# Altium footprint library PCB2.PCBLIB: 30 footprints (part 2 of 2)
Each footprint in its own frame and in the unit in brackets; x right, y up, seen from the top. Pads: shape width x height; smd on the part's side, far side on the other; paste and mask are expansions set on the pad; w line width, h text height; cw(c..) or ccw(c..) is an arc to the next point about the centre after c.
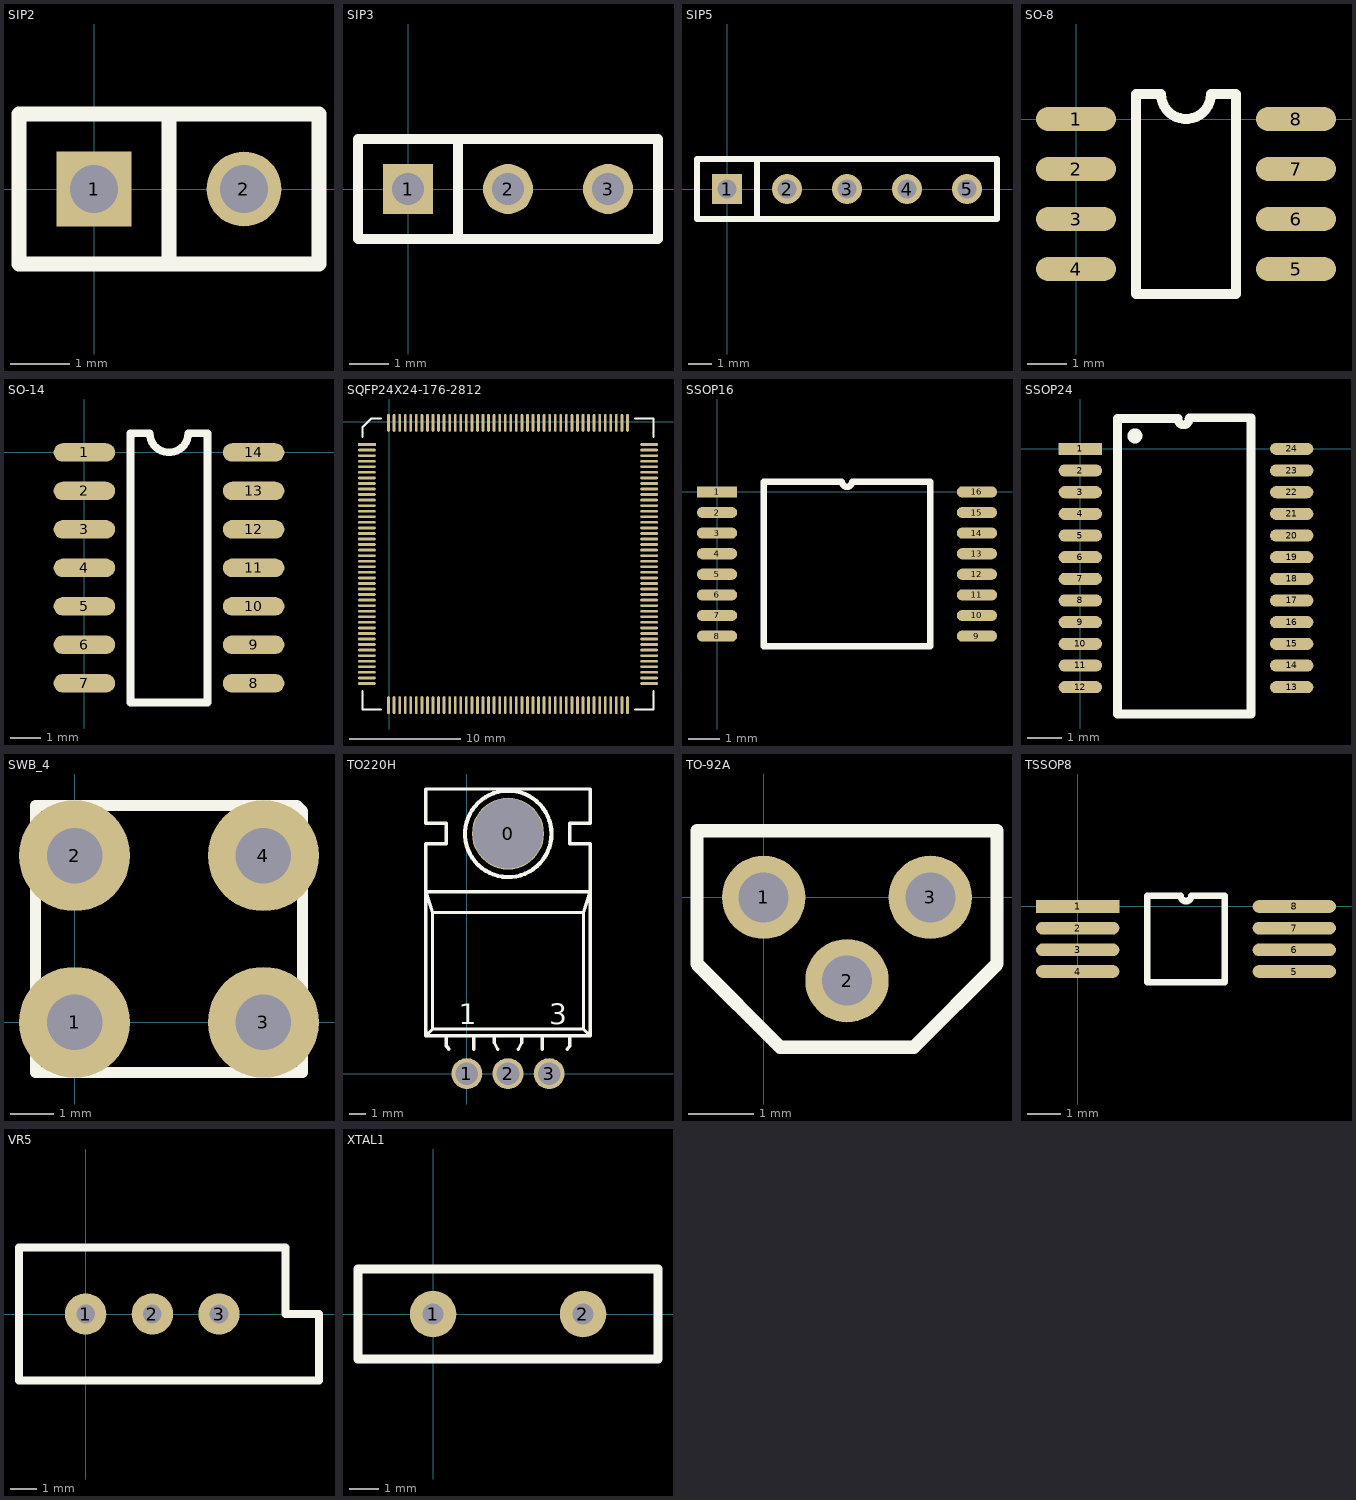
[diagram p1: the footprints below, top view; thin cyan lines are the x and y axes]

## SIP2 [mil]
pads (2):
  rect 50x50 hole 32: 1(0,0)
  round 50 hole 32: 2(100,0)
TopOverlay:
  lines w10: 50,-50 50,50 ; -50,-50 -50,50 150,50 150,-50 -50,-50

## SIP3 [mil]
pads (3):
  rect 50x50 hole 32: 1(0,0)
  round 50 hole 32: 2(100,0) 3(200,0)
TopOverlay:
  lines w10: 50,-50 50,50 ; -50,-50 -50,50 250,50 250,-50 -50,-50

## SIP5 [mil]
pads (5):
  rect 50x50 hole 32: 1(0,0)
  round 50 hole 32: 2(100,0) 3(200,0) 4(300,0) 5(400,0)
TopOverlay:
  lines w10: 50,-50 50,50 ; -50,-50 -50,50 450,50 450,-50 -50,-50

## SO-8 [mil]
pads (8):
  oval 80x24 smd: 1(0,0) 2(0,-50) 3(0,-100) 4(0,-150) 5(220,-150) 6(220,-100) 7(220,-50) 8(220,0)
TopOverlay:
  lines w10: 60,-175 60,25 85,25 ccw(c110,25) 135,25 160,25 160,-175 60,-175

## SO-14 [mil]
pads (14):
  oval 80x24 smd: 1(0,0) 2(0,-50) 3(0,-100) 4(0,-150) 5(0,-200) 6(0,-250) 7(0,-300) 8(220,-300) 9(220,-250) 10(220,-200) 11(220,-150) 12(220,-100) 13(220,-50) 14(220,0)
TopOverlay:
  lines w10: 60,-325 60,25 85,25 ccw(c110,25) 135,25 160,25 160,-325 60,-325

## SQFP24X24-176-2812 [mil]
pads (176):
  rect 62.99x10 smd: 1(-80,-80)
  oval 62.99x10 smd: 2(-80,-99.69) 3(-80,-119.37) 4(-80,-139.06) 5(-80,-158.74) 6(-80,-178.43) 7(-80,-198.11) 8(-80,-217.79) 9(-80,-237.48) 10(-80,-257.17) 11(-80,-276.85) 12(-80,-296.54) 13(-80,-316.22) 14(-80,-335.9) 15(-80,-355.59) 16(-80,-375.27) 17(-80,-394.96) 18(-80,-414.64) 19(-80,-434.33) 20(-80,-454.01) 21(-80,-473.7) 22(-80,-493.38) 23(-80,-513.07) 24(-80,-532.75) 25(-80,-552.44) 26(-80,-572.12) 27(-80,-591.81) 28(-80,-611.5) 29(-80,-631.18) 30(-80,-650.87) 31(-80,-670.55) 32(-80,-690.24) 33(-80,-709.92) 34(-80,-729.61) 35(-80,-749.29) 36(-80,-768.98) 37(-80,-788.66) 38(-80,-808.35) 39(-80,-828.03) 40(-80,-847.72) 41(-80,-867.4) 42(-80,-887.09) 43(-80,-906.77) 44(-80,-926.46) 89(920,-926.46) 90(920,-906.77) 91(920,-887.09) 92(920,-867.4) 93(920,-847.72) 94(920,-828.03) 95(920,-808.35) 96(920,-788.66) 97(920,-768.98) 98(920,-749.29) 99(920,-729.61) 100(920,-709.92) 101(920,-690.24) 102(920,-670.55) 103(920,-650.87) 104(920,-631.18) 105(920,-611.5) 106(920,-591.81) 107(920,-572.12) 108(920,-552.44) 109(920,-532.75) 110(920,-513.07) 111(920,-493.38) 112(920,-473.7) 113(920,-454.01) 114(920,-434.33) 115(920,-414.64) 116(920,-394.96) 117(920,-375.27) 118(920,-355.59) 119(920,-335.9) 120(920,-316.22) 121(920,-296.54) 122(920,-276.85) 123(920,-257.17) 124(920,-237.48) 125(920,-217.79) 126(920,-198.11) 127(920,-178.43) 128(920,-158.74) 129(920,-139.06) 130(920,-119.37) 131(920,-99.69) 132(920,-80)
  oval 10x62.99 smd: 45(-3.23,-1003.23) 46(16.46,-1003.23) 47(36.14,-1003.23) 48(55.83,-1003.23) 49(75.51,-1003.23) 50(95.2,-1003.23) 51(114.88,-1003.23) 52(134.57,-1003.23) 53(154.25,-1003.23) 54(173.94,-1003.23) 55(193.62,-1003.23) 56(213.31,-1003.23) 57(232.99,-1003.23) 58(252.68,-1003.23) 59(272.36,-1003.23) 60(292.05,-1003.23) 61(311.73,-1003.23) 62(331.42,-1003.23) 63(351.1,-1003.23) 64(370.79,-1003.23) 65(390.47,-1003.23) 66(410.16,-1003.23) 67(429.84,-1003.23) 68(449.53,-1003.23) 69(469.21,-1003.23) 70(488.9,-1003.23) 71(508.58,-1003.23) 72(528.27,-1003.23) 73(547.95,-1003.23) 74(567.64,-1003.23) 75(587.32,-1003.23) 76(607.01,-1003.23) 77(626.69,-1003.23) 78(646.38,-1003.23) 79(666.06,-1003.23) 80(685.75,-1003.23) 81(705.43,-1003.23) 82(725.12,-1003.23) 83(744.8,-1003.23) 84(764.49,-1003.23) 85(784.17,-1003.23) 86(803.86,-1003.23) 87(823.54,-1003.23) 88(843.23,-1003.23) 133(843.23,-3.23) 134(823.54,-3.23) 135(803.86,-3.23) 136(784.17,-3.23) 137(764.49,-3.23) 138(744.8,-3.23) 139(725.12,-3.23) 140(705.43,-3.23) 141(685.75,-3.23) 142(666.06,-3.23) 143(646.38,-3.23) 144(626.69,-3.23) 145(607.01,-3.23) 146(587.32,-3.23) 147(567.64,-3.23) 148(547.95,-3.23) 149(528.27,-3.23) 150(508.58,-3.23) 151(488.9,-3.23) 152(469.21,-3.23) 153(449.53,-3.23) 154(429.84,-3.23) 155(410.16,-3.23) 156(390.47,-3.23) 157(370.79,-3.23) 158(351.1,-3.23) 159(331.42,-3.23) 160(311.73,-3.23) 161(292.05,-3.23) 162(272.36,-3.23) 163(252.68,-3.23) 164(232.99,-3.23) 165(213.31,-3.23) 166(193.62,-3.23) 167(173.94,-3.23) 168(154.25,-3.23) 169(134.57,-3.23) 170(114.88,-3.23) 171(95.2,-3.23) 172(75.51,-3.23) 173(55.83,-3.23) 174(36.14,-3.23) 175(16.46,-3.23) 176(-3.23,-3.23)
TopOverlay:
  lines w7.87: -95.75,-954.01 -95.75,-1018.98 -30.79,-1018.98 ; -95.75,-52.44 -95.75,-18.98 -64.25,12.52 -30.79,12.52 ; 870.79,-1018.98 935.75,-1018.98 935.75,-954.01 ; 870.79,12.52 935.75,12.52 935.75,-52.44

## SSOP16 [mm]
pads (16):
  rect 1.27x0.356 smd: 1(0,0)
  oval 1.27x0.356 smd: 2(0,-0.65) 3(0,-1.3) 4(0,-1.95) 5(0,-2.6) 6(0,-3.25) 7(0,-3.9) 8(0,-4.55) 9(8.2,-4.55) 10(8.2,-3.9) 11(8.2,-3.25) 12(8.2,-2.6) 13(8.2,-1.95) 14(8.2,-1.3) 15(8.2,-0.65) 16(8.2,0)
TopOverlay:
  lines w0.2: 1.47,-4.875 1.47,0.325 3.938,0.325 ccw(c4.1,0.325) 4.262,0.325 6.73,0.325 6.73,-4.875 1.47,-4.875

## SSOP24 [mil]
pads (24):
  rect 50x14 smd: 1(0,0)
  oval 50x14 smd: 2(0,-25) 3(0,-50) 4(0,-75) 5(0,-100) 6(0,-125) 7(0,-150) 8(0,-175) 9(0,-200) 10(0,-225) 11(0,-250) 12(0,-275) 13(244,-275) 14(244,-250) 15(244,-225) 16(244,-200) 17(244,-175) 18(244,-150) 19(244,-125) 20(244,-100) 21(244,-75) 22(244,-50) 23(244,-25) 24(244,0)
TopOverlay:
  circle w10: c63,15 r3.61
  lines w10: 113,34 ccw(c119.25,34) 125.5,34 ; 113,35 43,35 43,-306 197,-306 197,34 ; 126,36 197,36

## SWB_4 [mil]
pads (4):
  round 100 hole 50: 1(0,0) 2(0,150) 3(170,0) 4(170,150)
TopOverlay:
  lines w10: -35,-45 0,-45 205,-45 205,190 200,195 -35,195 -35,-45

## TO220H [mil]
pads (4):
  round 175 hole 170: 0(100,583.33)
  round 75 hole 55: 1(0,0) 2(100,0) 3(200,0)
TopOverlay:
  circle w10: c100.67,582.53 r105
  lines w7.87: -50,66.67 -50,91.67 ; -48.11,65.41 -43.58,59.05 ; 16.67,59.05 16.67,91.67 ; 66.67,91.67 66.67,75 75,59.05 ; 125,59.05 133.33,75 133.33,91.67 ; 183.33,59.05 183.33,91.67 ; 243.9,59.05 250.31,67.61 ; 250,66.67 250,91.67 ; -100,91.67 -100,558.33 -50,558.33 -50,608.33 -100,608.33 -100,691.67 300,691.67 300,608.33 250,608.33 250,558.33 300,558.33 300,91.67 ; -100,91.67 300,91.67 ; -100,91.67 -83.33,108.33 ; -83.33,108.33 -83.33,391.67 ; -83.33,108.33 283.33,108.33 ; -83.33,391.67 -100,441.67 300,441.67 283.33,391.67 ; -83.33,391.67 283.33,391.67 ; 283.33,108.33 283.33,391.67 ; 283.33,108.33 300,91.67
  text "3" at 200,120 h50
  text "1" at -20,120 h50

## TO-92A [mil]
pads (3):
  round 50 hole 30: 1(0,0) 2(50,-50) 3(100,0)
TopOverlay:
  lines w8: -40,-40 -40,40 140,40 140,-40 90,-90 10,-90 -40,-40

## TSSOP8 [mm]
pads (8):
  rect 2.5x0.38 smd: 1(0,0)
  oval 2.5x0.38 smd: 2(0,-0.65) 3(0,-1.3) 4(0,-1.95) 5(6.5,-1.95) 6(6.5,-1.3) 7(6.5,-0.65) 8(6.5,0)
TopOverlay:
  lines w0.2: 2.085,-2.275 2.085,0.325 3.087,0.325 ccw(c3.25,0.325) 3.412,0.325 4.415,0.325 4.415,-2.275 2.085,-2.275

## VR5 [mil]
pads (3):
  round 62 hole 28: 1(0,0) 2(100,0) 3(200,0)
TopOverlay:
  lines w12: -100,-100 350,-100 350,0 300,0 300,100 -100,100 -100,-100

## XTAL1 [mil]
pads (2):
  round 62 hole 28: 1(0,0) 2(200,0)
TopOverlay:
  lines w12: -100,-60 300,-60 300,60 -100,60 -100,-60